# Altium integrated library CH340B.IntLib: 1 symbol
Pins are listed as number, name and electrical type; pins without a type are passive.

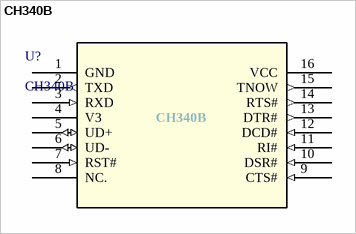
[diagram p0: symbol CH340B]

## CH340B
designator U?
Transceiver USB 2.0 2Mbps SOP-16_150mil USB ICs RoHS; Vendor: WCH; Datasheet: https://datasheet.lcsc.com/lcsc/2107141453_WCH-Jiangsu-Qin-Heng-CH340B_C81010.pdf; Manufacturer_Part_Number: CH340B; RefDes: RefDes; Type: DEV; ComponentLink1Description: LCSC; ComponentLink1URL: https://lcsc.com/product-detail/USB-ICs_WCH-Jiangsu-Qin-Heng-CH340B_C81010.html
footprint SSOP16_FTD
pins: 1 GND, 2 TXD (out), 3 RXD (in), 4 V3 (power), 5 UD+ (io), 6 UD- (io), 7 RST# (in), 8 NC., 9 CTS# (in), 10 DSR# (in), 11 RI# (in), 12 DCD# (in), 13 DTR# (out), 14 RTS# (out), 15 TNOW (out), 16 VCC (power)